# Altium schematic symbol library Regulators.SchLib: 4 symbols
Pins are listed as number, name and electrical type; pins without a type are passive.

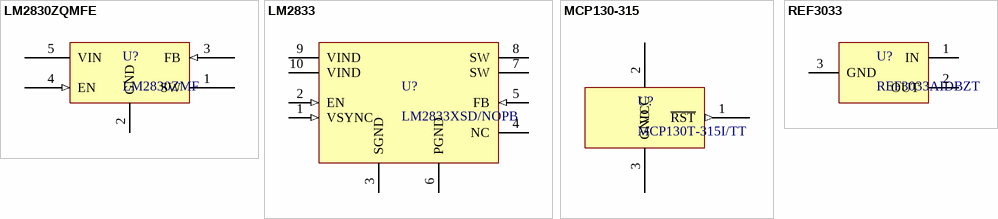
[diagram p0: symbols LM2830ZQMFE to REF3033]

## LM2830ZQMFE
designator U?, comment LM2830ZMF
TEXAS INSTRUMENTS - LM2830ZMF/NOPB - DC/DC CONV, BUCK, 3MHZ, SOT-23-5; Manufacturer Part Number: LM2830ZMF/NOPB; Supplier: Farnell; Manufacturer: TEXAS INSTRUMENTS; Supplier Part Number: 2492174
footprint SOT23-5
pins: 1 SW (power), 2 GND (power), 3 FB (in), 4 EN (in), 5 VIN (power)

## LM2833
designator U?, comment LM2833XSD/NOPB
TEXAS INSTRUMENTS - LM2833XSD/NOPB - IC, DC DC SW REG, 1.6MHZ, 3A, 10LLP; Manufacturer Part Number: LM2833XSD/NOPB; Manufacturer: TEXAS INSTRUMENTS; Supplier: Farnell; Supplier Part Number: 1699383
footprint MSOP10
pins: 1 VSYNC (in), 2 EN (in), 3 SGND (power), 4 NC (oc), 5 FB (in), 6 PGND (power), 7 SW (power), 8 SW (power), 9 VIND (power), 10 VIND (power)

## MCP130-315
designator U?, comment MCP130T-315I/TT
MICROCHIP - MCP130T-315I/TT - MICROCONTROLLER MCU VOLTAGE SUPERVISOR 45 uA 5.5V SOT23-3; Supplier: Farnell; Manufacturer: MICROCHIP; Manufacturer Part Number: MCP130T-315I/TT; Supplier Part Number: 2134415
footprint SOT-23
pins: 1 ~{RST} (out), 2 VCC (power), 3 GND (power)

## REF3033
designator U?, comment REF3033AIDBZT
TEXAS INSTRUMENTS - REF3033AIDBZT - VOLTAGE REF, SERIES, 3.3V, SOT-23-3; Manufacturer: TEXAS INSTRUMENTS; Manufacturer Part Number: REF3033AIDBZT; Supplier: Farnell; Supplier Part Number: 1470325RL
footprint SOT-23
pins: 1 IN (power), 2 OUT (power), 3 GND (power)